# Altium footprint library ECS-3518-1000-B-TR.PcbLib: 1 footprints
Each footprint in its own frame and in the unit in brackets; x right, y up, seen from the top. Pads: shape width x height; smd on the part's side, far side on the other; paste and mask are expansions set on the pad; w line width, h text height; cw(c..) or ccw(c..) is an arc to the next point about the centre after c.
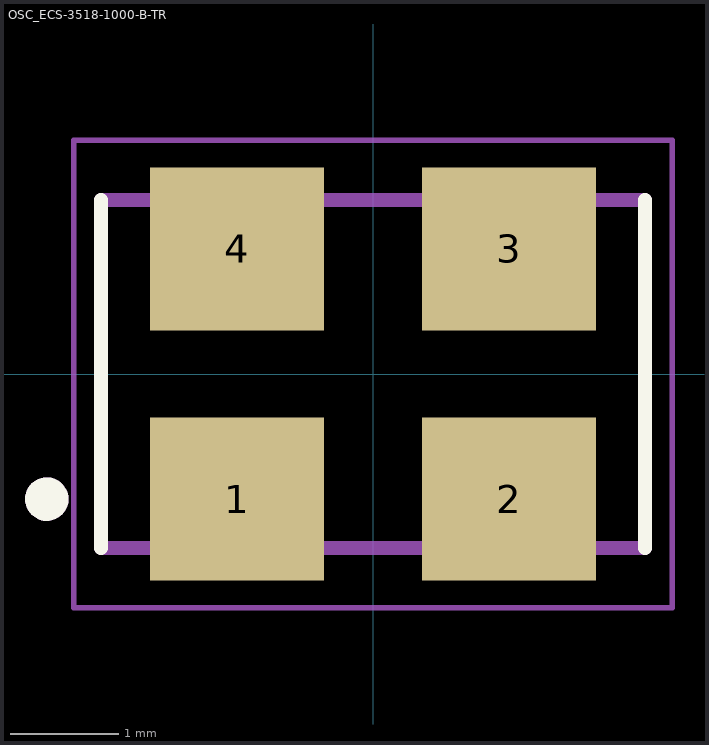
[diagram p0: the footprint, top view; thin cyan lines are the x and y axes]

## OSC_ECS-3518-1000-B-TR [mm]
pads (4):
  rect 1.6x1.5 smd: 1(-1.25,-1.15) 2(1.25,-1.15) 3(1.25,1.15) 4(-1.25,1.15)
Top Overlay:
  circle w0.2: c-3,-1.15 r0.1
  lines w0.127: -2.5,-1.6 -2.5,1.6 ; 2.5,-1.6 2.5,1.6
Mechanical 13:
  circle w0.2: c-3,-1.15 r0.1
  lines w0.127: -2.5,-1.6 -2.5,1.6 2.5,1.6 2.5,-1.6 -2.5,-1.6
Mechanical 15:
  lines w0.05: -2.75,-2.15 -2.75,2.15 2.75,2.15 2.75,-2.15 -2.75,-2.15
3D body "step_temp.STEP": height 1.3, standoff 0, extent -2.5,-1.6 2.5,1.6